# Altium footprint library FBGA-256.PcbLib: 1 footprints
Each footprint in its own frame and in the unit in brackets; x right, y up, seen from the top. Pads: shape width x height; smd on the part's side, far side on the other; paste and mask are expansions set on the pad; w line width, h text height; cw(c..) or ccw(c..) is an arc to the next point about the centre after c.
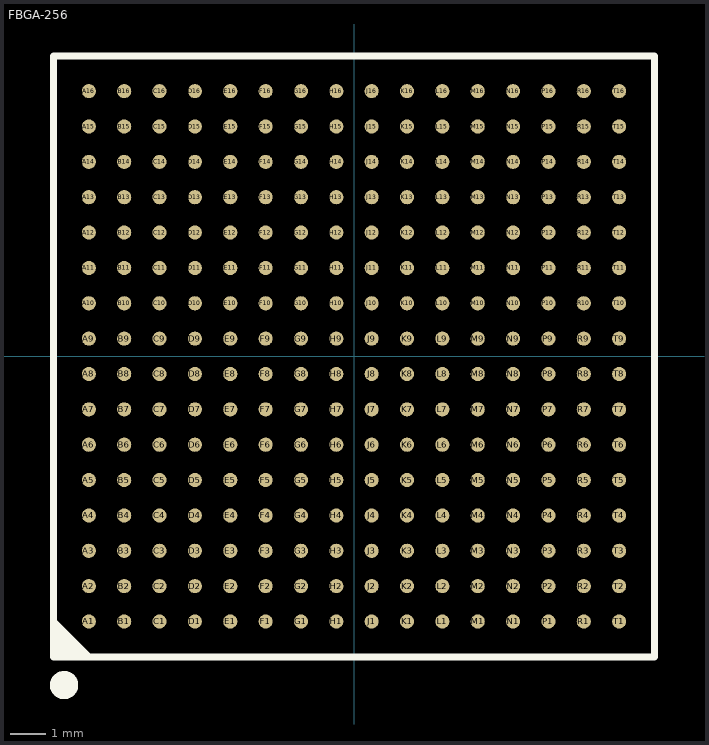
[diagram p0: the footprint, top view; thin cyan lines are the x and y axes]

## FBGA-256 [mm]
pads (256):
  round 0.4 smd mask+0.051: A1(-7.5,-7.5) A2(-7.5,-6.5) A3(-7.5,-5.5) A4(-7.5,-4.5) A5(-7.5,-3.5) A6(-7.5,-2.5) A7(-7.5,-1.5) A8(-7.5,-0.5) A9(-7.5,0.5) A10(-7.5,1.5) A11(-7.5,2.5) A12(-7.5,3.5) A13(-7.5,4.5) A14(-7.5,5.5) A15(-7.5,6.5) A16(-7.5,7.5) B1(-6.5,-7.5) B2(-6.5,-6.5) B3(-6.5,-5.5) B4(-6.5,-4.5) B5(-6.5,-3.5) B6(-6.5,-2.5) B7(-6.5,-1.5) B8(-6.5,-0.5) B9(-6.5,0.5) B10(-6.5,1.5) B11(-6.5,2.5) B12(-6.5,3.5) B13(-6.5,4.5) B14(-6.5,5.5) B15(-6.5,6.5) B16(-6.5,7.5) C1(-5.5,-7.5) C2(-5.5,-6.5) C3(-5.5,-5.5) C4(-5.5,-4.5) C5(-5.5,-3.5) C6(-5.5,-2.5) C7(-5.5,-1.5) C8(-5.5,-0.5) C9(-5.5,0.5) C10(-5.5,1.5) C11(-5.5,2.5) C12(-5.5,3.5) C13(-5.5,4.5) C14(-5.5,5.5) C15(-5.5,6.5) C16(-5.5,7.5) D1(-4.5,-7.5) D2(-4.5,-6.5) D3(-4.5,-5.5) D4(-4.5,-4.5) D5(-4.5,-3.5) D6(-4.5,-2.5) D7(-4.5,-1.5) D8(-4.5,-0.5) D9(-4.5,0.5) D10(-4.5,1.5) D11(-4.5,2.5) D12(-4.5,3.5) D13(-4.5,4.5) D14(-4.5,5.5) D15(-4.5,6.5) D16(-4.5,7.5) E1(-3.5,-7.5) E2(-3.5,-6.5) E3(-3.5,-5.5) E4(-3.5,-4.5) E5(-3.5,-3.5) E6(-3.5,-2.5) E7(-3.5,-1.5) E8(-3.5,-0.5) E9(-3.5,0.5) E10(-3.5,1.5) E11(-3.5,2.5) E12(-3.5,3.5) E13(-3.5,4.5) E14(-3.5,5.5) E15(-3.5,6.5) E16(-3.5,7.5) F1(-2.5,-7.5) F2(-2.5,-6.5) F3(-2.5,-5.5) F4(-2.5,-4.5) F5(-2.5,-3.5) F6(-2.5,-2.5) F7(-2.5,-1.5) F8(-2.5,-0.5) F9(-2.5,0.5) F10(-2.5,1.5) F11(-2.5,2.5) F12(-2.5,3.5) F13(-2.5,4.5) F14(-2.5,5.5) F15(-2.5,6.5) F16(-2.5,7.5) G1(-1.5,-7.5) G2(-1.5,-6.5) G3(-1.5,-5.5) G4(-1.5,-4.5) G5(-1.5,-3.5) G6(-1.5,-2.5) G7(-1.5,-1.5) G8(-1.5,-0.5) G9(-1.5,0.5) G10(-1.5,1.5) G11(-1.5,2.5) G12(-1.5,3.5) G13(-1.5,4.5) G14(-1.5,5.5) G15(-1.5,6.5) G16(-1.5,7.5) H1(-0.5,-7.5) H2(-0.5,-6.5) H3(-0.5,-5.5) H4(-0.5,-4.5) H5(-0.5,-3.5) H6(-0.5,-2.5) H7(-0.5,-1.5) H8(-0.5,-0.5) H9(-0.5,0.5) H10(-0.5,1.5) H11(-0.5,2.5) H12(-0.5,3.5) H13(-0.5,4.5) H14(-0.5,5.5) H15(-0.5,6.5) H16(-0.5,7.5) J1(0.5,-7.5) J2(0.5,-6.5) J3(0.5,-5.5) J4(0.5,-4.5) J5(0.5,-3.5) J6(0.5,-2.5) J7(0.5,-1.5) J8(0.5,-0.5) J9(0.5,0.5) J10(0.5,1.5) J11(0.5,2.5) J12(0.5,3.5) J13(0.5,4.5) J14(0.5,5.5) J15(0.5,6.5) J16(0.5,7.5) K1(1.5,-7.5) K2(1.5,-6.5) K3(1.5,-5.5) K4(1.5,-4.5) K5(1.5,-3.5) K6(1.5,-2.5) K7(1.5,-1.5) K8(1.5,-0.5) K9(1.5,0.5) K10(1.5,1.5) K11(1.5,2.5) K12(1.5,3.5) K13(1.5,4.5) K14(1.5,5.5) K15(1.5,6.5) K16(1.5,7.5) L1(2.5,-7.5) L2(2.5,-6.5) L3(2.5,-5.5) L4(2.5,-4.5) L5(2.5,-3.5) L6(2.5,-2.5) L7(2.5,-1.5) L8(2.5,-0.5) L9(2.5,0.5) L10(2.5,1.5) L11(2.5,2.5) L12(2.5,3.5) L13(2.5,4.5) L14(2.5,5.5) L15(2.5,6.5) L16(2.5,7.5) M1(3.5,-7.5) M2(3.5,-6.5) M3(3.5,-5.5) M4(3.5,-4.5) M5(3.5,-3.5) M6(3.5,-2.5) M7(3.5,-1.5) M8(3.5,-0.5) M9(3.5,0.5) M10(3.5,1.5) M11(3.5,2.5) M12(3.5,3.5) M13(3.5,4.5) M14(3.5,5.5) M15(3.5,6.5) M16(3.5,7.5) N1(4.5,-7.5) N2(4.5,-6.5) N3(4.5,-5.5) N4(4.5,-4.5) N5(4.5,-3.5) N6(4.5,-2.5) N7(4.5,-1.5) N8(4.5,-0.5) N9(4.5,0.5) N10(4.5,1.5) N11(4.5,2.5) N12(4.5,3.5) N13(4.5,4.5) N14(4.5,5.5) N15(4.5,6.5) N16(4.5,7.5) P1(5.5,-7.5) P2(5.5,-6.5) P3(5.5,-5.5) P4(5.5,-4.5) P5(5.5,-3.5) P6(5.5,-2.5) P7(5.5,-1.5) P8(5.5,-0.5) P9(5.5,0.5) P10(5.5,1.5) P11(5.5,2.5) P12(5.5,3.5) P13(5.5,4.5) P14(5.5,5.5) P15(5.5,6.5) P16(5.5,7.5) R1(6.5,-7.5) R2(6.5,-6.5) R3(6.5,-5.5) R4(6.5,-4.5) R5(6.5,-3.5) R6(6.5,-2.5) R7(6.5,-1.5) R8(6.5,-0.5) R9(6.5,0.5) R10(6.5,1.5) R11(6.5,2.5) R12(6.5,3.5) R13(6.5,4.5) R14(6.5,5.5) R15(6.5,6.5) R16(6.5,7.5) T1(7.5,-7.5) T2(7.5,-6.5) T3(7.5,-5.5) T4(7.5,-4.5) T5(7.5,-3.5) T6(7.5,-2.5) T7(7.5,-1.5) T8(7.5,-0.5) T9(7.5,0.5) T10(7.5,1.5) T11(7.5,2.5) T12(7.5,3.5) T13(7.5,4.5) T14(7.5,5.5) T15(7.5,6.5) T16(7.5,7.5)
Top Overlay:
  circle w0.4: c-8.2,-9.3 r0.2
  region: -8.5,-7.5 -7.5,-8.5 -8.5,-8.5
  lines w0.2: -8.5,-7.5 -7.5,-8.5 ; -8.5,-8.5 8.5,-8.5 8.5,8.5 -8.5,8.5 -8.5,-8.5
Mechanical 13:
  lines w0.1: -8.5,-8.5 8.5,-8.5 8.5,8.5 -8.5,8.5 -8.5,-8.5